# Altium integrated library photoelements.IntLib: 5 symbols
Pins are listed as number, name and electrical type; pins without a type are passive.

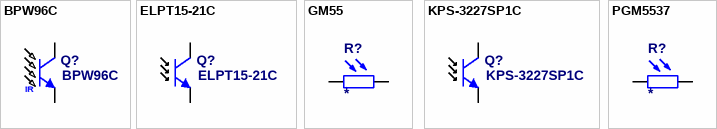
[diagram p0: symbols BPW96C to PGM5537]

## BPW96C
designator Q?
Phototransistor; λp max:850nm; 70V; 20°; Lens: transparent; Ø:5mm; Supplier 1: TME; Supplier Part Number 1: ELPT15-21C
footprint LED-502 (FIX&FASTEN)
pins: 1 E, 2 C
text: IR

## ELPT15-21C
designator Q?
Photo Transistor 30V 0,3mA 940nm (TME ELPT15-21C); Supplier 1: TME; Supplier Part Number 1: ELPT15-21C
footprint PT1206
pins: 1 E, 2 C

## GM55
designator R?
GM55 Series Photoresistor (5 x 4.2 x 2.5 mm); Published: 29-Aug-2006; Value: *
footprint GM55 (Photoresistor - 5 x 4.2 x 2.5 mm)
pins: 1, 2

## KPS-3227SP1C
designator Q?
Photo Transistor 60V 0,1mA 580nm (TME KPS-3227SP1C); Supplier 1: TME; Supplier Part Number 1: ELPT15-21C
footprint KPS-3227
pins: 1 E, 2 C

## PGM5537
designator R?
PGM55xx Series Photoresistor (5 x 4.2 x 2.5 mm); Published: 29-Aug-2006; Supplier: TOKEN; Value: *
footprint PGM55xx (SDC Photo Resistor, 3.4mm lead spacing, epoxy resin)
pins: 1, 2